# Altium schematic symbol library Schlib1.SchLib: 11 symbols
Pins are listed as number, name and electrical type; pins without a type are passive.

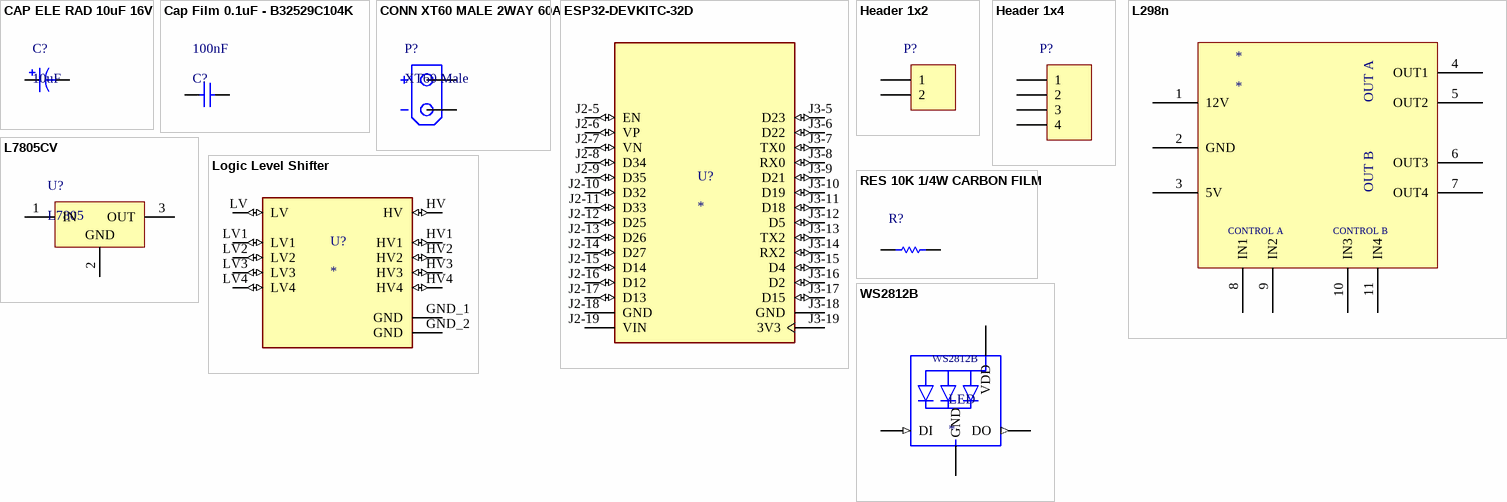
[diagram p0: symbols CAP ELE RAD 10uF 16V to WS2812B]

## CAP ELE RAD 10uF 16V
designator C?, comment 10uF
CAP ELE RAD 10uF 16V; Manufacturer Part Number: IMP1295; Product Range: MCGPR Series; Capacitance Tolerance: ± 20%; Voltage Rating: 16; Capacitor Terminals: Radial Leaded; Lifetime @ Temperature: 2000 hours @ 85; SVHC: No SVHC (15-Jun-2015); Leakage Current: 6; Supplier 1: Mult Comercial; Manufacturer: -; RoHS: YES; Stock 1: 33826; Pricing 1: 1=0.50 (BRL); Capacitance: 10uF; Diameter: 5; Packaging: Each; ESR: -; Height: 11; Lead Spacing: 2; Operating Temperature Min: -40; Operating Temperature Max: 85; Capacitance Tolerance ±: ± 20%; Operating Temperature Range: -40°C to +85°C<!--FANDB--><div class="features-and-benefits-container"><div class="features-and-benefits-description"><span class="features-benefits-value">The Multicomp MCGPR series capacitors are general purpose, radial leaded polarized aluminium electrolytic capacitors. MCGPR series parts cover broad range of voltage ratings and capacitance values.</span></div><div class="features-and-benefits-list"><ul class="features-and-benefits-list-list"><li class="features-and-benefits-list-item">Capacitance value ranges from 0.1µF to 22000µF for 6.3VDC to 100VDC</li><li class="features-and-benefits-list-item">Capacitance value ranges from 0.47µF to 820µF for 160VDC to 450VDC</li><li class="features-and-benefits-list-item">Tolerance of ±20%</li><li class="features-and-benefits-list-item">Endurance of 2000h at 85°C</li><li class="features-and-benefits-list-item">Available in -40°C to 85°C and -25°C to 85; ComponentLink1URL: http://loja.multcomercial.com.br/capacitor-eletrolitico-10uf-16v.html; ComponentLink1Description: http://loja.multcomercial.com.br/capacitor-eletrolitico-10uf-16v.html; Supplier Part Number 1: Capacitor Eletrolítico 10uF/16V
footprint CAP RAD 10UF 35V
pins: 1, 2

## Cap Film 0.1uF - B32529C104K
designator C?, comment Capacitance: 100nF  (hidden comment: Cap Film 0.1uF)
Cap Film 0.1uF 63V PET 10% (7.2 X 2.5 X 6.5mm) Radial 5mm 125C Bulk; Manufacturer: TDK EPCOS; Manufacturer Part Number: B32529C104K; Material: PVC,Resin; Voltage Rating (AC): 40V; Life (Hours): 200000Hour; Insulation Resistance: 15GR; Lead Diameter: 0.5mm; Lead Length: 6mm; Supplier 1: Newark; Stock 1: 0; Mount: PCB,Through Hole; Case/Package: Radial; Number of Pins: 2; Dielectric Material: PET; Contact Plating: Matte,Tin; Min Operating Temperature: -55°C; Max Operating Temperature: 125°C; Voltage Rating: 63V; Tolerance: 10%; Packaging: Bulk; Voltage Rating (DC): 63V; Package Quantity: 2000; Termination: Radial; Dielectric: PET; Length: 7.2mm; Height: 6.5mm; Lead Pitch: 5mm; Width: 2.5mm; Height - Seated (Max): 0.256inch; Depth: 2.5mm; Pitch: 5mm; Radiation Hardening: No; REACH SVHC: No SVHC; Lead Free: Lead Free; ComponentLink1URL: http://www.farnell.com/datasheets/8708.pdf?src-supplier=Element14; ComponentLink1Description: http://www.farnell.com/datasheets/8708.pdf?src-supplier=Element14; ComponentLink2URL: https://www.distrelec.biz/Web/Downloads/_t/ds/b3252x_eng_tds.pdf?mime=application%2Fpdf&src-supplier=Distrelec; ComponentLink2Description: https://www.distrelec.biz/Web/Downloads/_t/ds/b3252x_eng_tds.pdf?mime=application%2Fpdf&src-supplier=Distrelec; ComponentLink3URL: http://www.farnell.com/datasheets/1955213.pdf?src-supplier=Farnell; ComponentLink3Description: http://www.farnell.com/datasheets/1955213.pdf?src-supplier=Farnell; ComponentLink4URL: https://www.verical.com/server-webapp/html/getDatasheet?partID=117180&src-supplier=Verical; ComponentLink4Description: https://www.verical.com/server-webapp/html/getDatasheet?partID=117180&src-supplier=Verical; ComponentLink5URL: https://produktinfo.conrad.com/datenblaetter/500000-524999/500871-da-01-en-METALLPOLYESTER_KONDENSATOR_0_10_UF.pdf?src-supplier=Conrad; ComponentLink5Description: https://produktinfo.conrad.com/datenblaetter/500000-524999/500871-da-01-en-METALLPOLYESTER_KONDENSATOR_0_10_UF.pdf?src-supplier=Conrad; Supplier Part Number 1: 21C0469
footprint Cap Film 0.1uF
pins: 1, 2

## CONN XT60 MALE 2WAY 60A
designator P?, comment XT60 Male
CONN XT60 MALE 2WAY 60A; Manufacturer: Turnigy; No. of Contacts: 2; Gender: Connector (Male); Pitch Spacing: 7.15mm; Contact Termination Type: Through Hole; No. of Rows: 1; Contact Termination: Through Hole Vertical; Current Rating: 60; Supplier 1: HobbyKing; Manufacturer Part Number: XT60; Stock 1: Available; Pricing 1: 5=2.02 (USD); Contact Plating: Gold; Lead Spacing: 7.15mm; Termination Method: Solder; ComponentLink1URL: http://www.hobbyking.com/hobbyking/store/__10414__Male_XT60_Connectors_5pcs_bag_GENUINE.html; ComponentLink1Description: http://www.hobbyking.com/hobbyking/store/__10414__Male_XT60_Connectors_5pcs_bag_GENUINE.html; ComponentLink2URL: http://www.3dcontentcentral.com/secure/download-model.aspx?catalogid=171&id=221629; ComponentLink2Description: http://www.3dcontentcentral.com/secure/download-model.aspx?catalogid=171&id=221629; Supplier Part Number 1: 601Ax5
footprint XT60 MALE
pins: 1 + (power), 2 - (power)

## ESP32-DEVKITC-32D
designator U?
WiFi Development Tools (802.11) ESP32 General Development Kit, ESP32-WROOM-32D on the board; MF: Espressif Systems; MP: ESP32-DEVKITC-32D; SnapEDA_Link: https://www.snapeda.com/parts/ESP32-DEVKITC-32D/Espressif+Systems/view-part/?ref=snap; Package: None; Value: *; Check_prices: https://www.snapeda.com/parts/ESP32-DEVKITC-32D/Espressif+Systems/view-part/?ref=eda
footprint MODULE_ESP32-DEVKITC-32D - duplicate
pins: J2-5 EN (io), J2-6 VP (io), J2-7 VN (io), J2-8 D34 (io), J2-9 D35 (io), J2-10 D32 (io), J2-11 D33 (io), J2-12 D25 (io), J2-13 D26 (io), J2-14 D27 (io), J2-15 D14 (io), J2-16 D12 (io), J2-17 D13 (io), J2-18 GND (power), J2-19 VIN (power), J3-5 D23 (io), J3-6 D22 (io), J3-7 TX0 (io), J3-8 RX0 (io), J3-9 D21 (io), J3-10 D19 (io), J3-11 D18 (io), J3-12 D5 (io), J3-13 TX2 (io), J3-14 RX2 (io), J3-15 D4 (io), J3-16 D2 (io), J3-17 D15 (io), J3-18 GND (power), J3-19 3V3 (power)

## Header 1x2
designator P?  (value not drawn)
Manufacturer: Cromax; Manufacturer Part Number: IMP10327; Mounting Angle: Vertical; Number of Positions: 40 Position; Pitch: 2 mm; Supplier 1: Mult Comercial; RoHS: RoHS Compliant; Category: Headers & Wire Housings; Stock 1: 14; Pricing 1: 1=1.00, 5=0.20 (BRL); Accessory Type: -; Contact Plating: Gold; Contact Type: -; Number of Rows: 1 Row; Product: Headers; Termination Style: Through Hole; Type: Breakaway; Brand: Cromax; Mounting Style: Straight Pin; Row Spacing: -; Contact Gender: Pin (Male); Product Category: Accessories; RoHS - Mouser: Y; Minimum Order Quantity: 1; Reeling: False; ComponentLink1URL: http://loja.multcomercial.com.br/barra-de-pinos-simples-1x40-macho-bmo40-1e.html; ComponentLink1Description: http://loja.multcomercial.com.br/barra-de-pinos-simples-1x40-macho-bmo40-1e.html; Supplier Part Number 1: Barra de Pinos Simples 1x40 Macho BMO40-1E
footprint KRE1X2
pins: 1, 2

## Header 1x4
designator P?  (value not drawn)
Headers & Wire Housings 40Pin 2mm Spacing Single Row Hdrs, 5pc; Manufacturer: Cromax; Manufacturer Part Number: IMP10327; Mounting Angle: Vertical; Number of Positions: 40 Position; Supplier 1: Mult Comercial; RoHS: RoHS Compliant; Category: Headers & Wire Housings; Stock 1: 14; Pricing 1: 1=1.00, 5=0.20 (BRL); Accessory Type: -; Contact Plating: Gold; Contact Type: -; Number of Rows: 1 Row; Product: Headers; Termination Style: Through Hole; Type: Breakaway; Brand: Cromax; Mounting Style: Straight Pin; Pitch: 2 mm; Row Spacing: -; Contact Gender: Pin (Male); Product Category: Accessories; RoHS - Mouser: Y; Minimum Order Quantity: 1; Reeling: False; ComponentLink1URL: http://loja.multcomercial.com.br/barra-de-pinos-simples-1x40-macho-bmo40-1e.html; ComponentLink1Description: http://loja.multcomercial.com.br/barra-de-pinos-simples-1x40-macho-bmo40-1e.html; Supplier Part Number 1: Barra de Pinos Simples 1x40 Macho BMO40-1E
footprint HDR1X4
pins: 1, 2, 3 (power), 4 (power)

## L298n
designator *
pins: 1 12V (power), 2 GND (power), 3 5V (power), 4 OUT1 (power), 5 OUT2, 6 OUT3, 7 OUT4, 8 IN1, 9 IN2, 10 IN3, 11 IN4
text: OUT A; OUT B; CONTROL A; CONTROL B

## L7805CV
designator U?, comment L7805
Linear Voltage Regulators 5.0V 1.0A Positive; Manufacturer: STMicroelectronics; Manufacturer Part Number: L7805CV; Input Voltage MAX: 35 V; Number of Outputs: 1; Output Current: 1.5 A; Output Type: Fixed; Output Voltage: 5 V; PSRR / Ripple Rejection - Typ: 62 dB; Input Voltage MIN: 7 V; Line Regulation: 100 mV; Supplier 1: Mult Comercial; RoHS: RoHS Compliant; Category: Linear Voltage Regulators; Stock 1: 26176; Pricing 1: 1=1.100 (BRL); Package / Case: TO-220; Packaging: Tube; Series: L7805; Brand: STMicroelectronics; Mounting Style: Through Hole; Load Regulation: 100 mV; Maximum Operating Temperature: + 125 C; Minimum Operating Temperature: 0 C; Polarity: Positive; Standard Pack Qty: 1000; RoHS - Mouser: Y; Minimum Order Quantity: 1; Reeling: False; ComponentLink1URL: http://loja.multcomercial.com.br/regulador-de-tens-o-linear-l7805cv-5v-1a-positivo-stmicroelectronics-cod-loja-03.html; ComponentLink1Description: http://loja.multcomercial.com.br/regulador-de-tens-o-linear-l7805cv-5v-1a-positivo-stmicroelectronics-cod-loja-03.html; Supplier Part Number 1: Regulador de Tensão Linear L7805CV 5V 1A Positivo TO220 - STMicroelectronics - Cód. Loja 03
footprint TO220AB
pins: 1 IN (power), 2 GND (power), 3 OUT (power)

## Logic Level Shifter
designator U?
BSS138 - Logic-Level Translator Interface Evaluation Board; MF: SparkFun; MP: BOB-12009; SnapEDA_Link: https://www.snapeda.com/parts/BOB-12009/SparkFun/view-part/?ref=snap; Package: None; Value: *; Check_prices: https://www.snapeda.com/parts/BOB-12009/SparkFun/view-part/?ref=eda
footprint CONV_BOB-12009
pins: GND_1 GND (power), GND_2 GND (power), HV (io), HV1 (io), HV2 (io), HV3 (io), HV4 (io), LV (io), LV1 (io), LV2 (io), LV3 (io), LV4 (io)

## RES 10K 1/4W CARBON FILM
designator R?  (value not drawn)
RES 10K OHM 1/4W 5% CARBON FILM; Manufacturer: Ty-Ohm; Manufacturer Part Number: CR25; Power (Watts): 0.25W, 1/4W; Temperature Coefficient: 0/ -500ppm/°C; Supplier 1: Mult Comercial; RoHS: RoHS Compliant; Category: Resistors; Stock 1: 617543; Pricing 1: 1=0.20 (BRL); Packaging: Cut Tape (CT); Tolerance: ±5%; Composition: Carbon Film; Features: Flame Retardant Coating, Safety; Operating Temperature: -55°C ~ 155°C; Package / Case: Axial; Supplier Device Package: Axial; Size / Dimension: 0.091" Dia x 0.256" L (2.30mm x 6.50mm); Height: -; Number of Terminations: 2; ComponentLink1URL: http://loja.multcomercial.com.br/resistor-de-1-4-de-watt-cr25-5-de-tolerancia.html; ComponentLink1Description: http://loja.multcomercial.com.br/resistor-de-1-4-de-watt-cr25-5-de-tolerancia.html; Supplier Part Number 1: Resistor de Filme de Carbono 1/4 de Watt CR25 5% de tolerância - 0.22R Ω à 10M Ω; Resistance (Ohms): ?
footprint RES 10K 1/4W CARBON FILM
pins: 1, 2

## WS2812B
designator LED
Raspberry Pi HAT _40 pin_ Wheeled Robotics Kit; MP: WS2812B; MF: SparkFun Electronics; Availability: Unavailable; SnapEDA_Link: https://www.snapeda.com/parts/WS2812B/Worldsemi/view-part/1038297/?ref=snap; Price: None; Value: *; Package: None
footprint WS2812B-LED
pins: 1-VDD VDD (power), 2-DOUT DO (out), 3-GND GND (power), 4-DIN DI (in)